# Altium schematic symbol library Conn,Jack,TRS,6.35mm,Thru.Schlib: 1 symbol
Pins are listed as number, name and electrical type; pins without a type are passive.

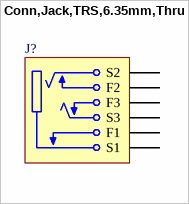
[diagram p0: symbol Conn,Jack,TRS,6.35mm,Thru]

## Conn,Jack,TRS,6.35mm,Thru
designator J?
pins: F1, F2, F3, S1, S2, S3